# Altium schematic symbol library MOC3021.SchLib: 1 symbol
Pins are listed as number, name and electrical type; pins without a type are passive.

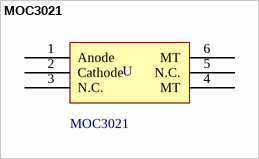
[diagram p0: symbol MOC3021]

## MOC3021
designator U  value MOC3021  (hidden comment: *)
Manufacturer Code: MOC3021-M; Manufacturer: FAIRCHILD SEMICONDUCTOR; Farnell Code: 1471017; Unit Price: 0,34 €; MOQ: 1
footprint DIP6 (Footprint not found)
pins: 1 Anode, 2 Cathode, 3 N.C., 4 MT, 5 N.C., 6 MT